# Altium footprint library DO-214AB.PcbLib: 1 footprints
Each footprint in its own frame and in the unit in brackets; x right, y up, seen from the top. Pads: shape width x height; smd on the part's side, far side on the other; paste and mask are expansions set on the pad; w line width, h text height; cw(c..) or ccw(c..) is an arc to the next point about the centre after c.
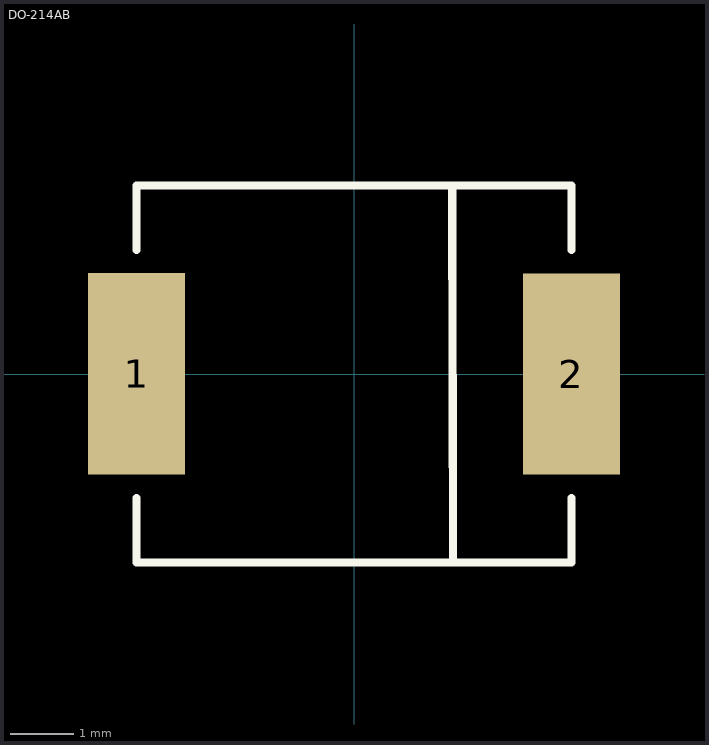
[diagram p0: the footprint, top view; thin cyan lines are the x and y axes]

## DO-214AB [mil]
height 45
pads (2):
  rect 60x125 smd: 1(-135,0.09) 2(135,0)
TopOverlay:
  lines w5: -135,-77 -135,-117 135,-117 135,-77 ; -135,77 -135,117 135,117 135,77 ; 61,117 61.35,-116.99
3D body: height 89.57, standoff -1.18, extent -156.31,-115.56 156.68,116.72